# Altium footprint library AVX IDC 9175_3.PcbLib: 1 footprints
Each footprint in its own frame and in the unit in brackets; x right, y up, seen from the top. Pads: shape width x height; smd on the part's side, far side on the other; paste and mask are expansions set on the pad; w line width, h text height; cw(c..) or ccw(c..) is an arc to the next point about the centre after c.
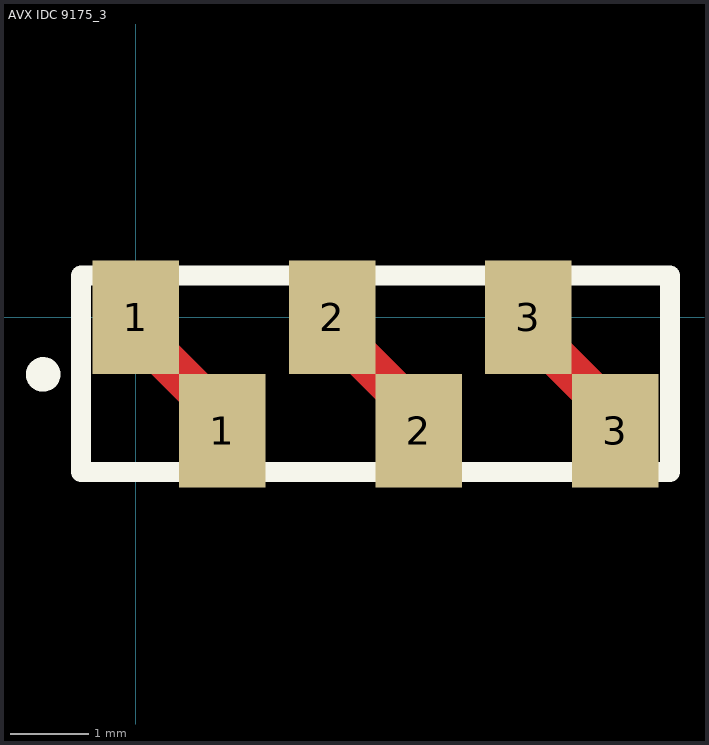
[diagram p0: the footprint, top view; thin cyan lines are the x and y axes]

## AVX IDC 9175_3 [mil]
pads (6):
  rect 43.31x57 smd: 1(0,0) 1(43.4,-57) 2(98.43,0) 2(141.82,-57) 3(196.85,0) 3(240.5,-57)
Top Layer:
  lines w20: 0,-6.6 33.6,-40.2 ; 103.4,-10.4 137,-44 ; 204.6,-13.3 238.2,-46.9
Top Overlay:
  circle w10: c-46.5,-28.7 r3.67
  lines w10: -27.45,-77.6 120.2,-77.6 267.85,-77.6 267.85,20.8 -27.45,20.8 -27.45,-77.6
3D body: height 150, standoff 0, extent -27.5,-78 267.5,20